# EAGLE library part 515-1062+597-7701-507F (library isystems-leds)
Dialight Optopipe 515-1066 Optical Light Pipe, 8 Array, 2.5mm Round Recomended MicroLED SMT LEDs: 597-3xx1-5xx, 597-77x1-5xx Features: Compatible with Dialight’s 515-1063 8 Array Light Pipe for bi-level SMT indicators High transmissivity polycarbonate material UL94V-0 compliance ESD protection (circuit isolation from front panel) Wide viewing angle Arrays reduce insertion costs Secures to PCB by press-fit Dialight Micro LED SMD bi-color LED Package: 1210 Color RED + GREEN Forward Voltage: 2.0/2.2V Wavelength: 653/575nm Intensity: 6.3 / 16 mcd
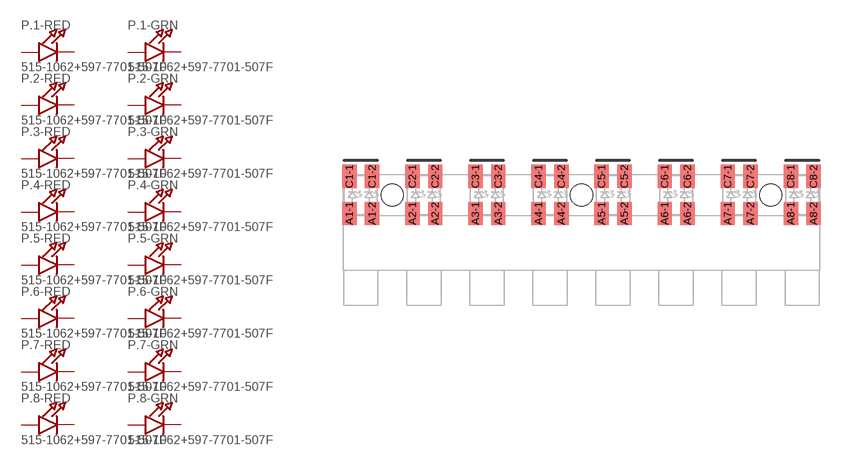
[diagram p0: symbol with the pads of DIALIGHT_515-1062-BICOLOR; footprint DIALIGHT_515-1062-BICOLOR]

Designator prefix P; gates .1-RED=LED .2-RED=LED .3-RED=LED .4-RED=LED .5-RED=LED .6-RED=LED .7-RED=LED .8-RED=LED .1-GRN=LED .2-GRN=LED .3-GRN=LED .4-GRN=LED .5-GRN=LED .6-GRN=LED .7-GRN=LED .8-GRN=LED

## 515-1062+597-7701-507F  [DIALIGHT_515-1062-BICOLOR]
A1-1  .1-GRN:A  pas
A1-2  .1-RED:A  pas
A2-1  .2-GRN:A  pas
A2-2  .2-RED:A  pas
A3-1  .3-GRN:A  pas
A3-2  .3-RED:A  pas
A4-1  .4-GRN:A  pas
A4-2  .4-RED:A  pas
A5-1  .5-GRN:A  pas
A5-2  .5-RED:A  pas
A6-1  .6-GRN:A  pas
A6-2  .6-RED:A  pas
A7-1  .7-GRN:A  pas
A7-2  .7-RED:A  pas
A8-1  .8-GRN:A  pas
A8-2  .8-RED:A  pas
C1-1  .1-GRN:C  pas
C1-2  .1-RED:C  pas
C2-1  .2-GRN:C  pas
C2-2  .2-RED:C  pas
C3-1  .3-GRN:C  pas
C3-2  .3-RED:C  pas
C4-1  .4-GRN:C  pas
C4-2  .4-RED:C  pas
C5-1  .5-GRN:C  pas
C5-2  .5-RED:C  pas
C6-1  .6-GRN:C  pas
C6-2  .6-RED:C  pas
C7-1  .7-GRN:C  pas
C7-2  .7-RED:C  pas
C8-1  .8-GRN:C  pas
C8-2  .8-RED:C  pas

## Footprint DIALIGHT_515-1062-BICOLOR (pad centres in mm)
Dialight Optopipe 515-1066 with bi-color LEDs Optical Light Pipe, 8 Array, 2.5mm Round Recomended MicroLED SMT LEDs: 597-3xx1-5xx, 597-77x1-5xx Features: Compatible with Dialight’s 515-1063 8 Array Light Pipe for bi-level SMT indicators High transmissivity polycarbonate material UL94V-0 compliance ESD protection (circuit isolation from front panel) Wide viewing angle Arrays reduce insertion costs Secures to PCB by press-fit
smd 1.04 x 1.7: A1-1 -16.82,-1.345; A1-2 -15.17,-1.345; A2-1 -12.25,-1.345; A2-2 -10.6,-1.345; A3-1 -7.68,-1.345; A3-2 -6.03,-1.345; A4-1 -3.11,-1.345; A4-2 -1.46,-1.345; A5-1 1.46,-1.345; A5-2 3.11,-1.345; A6-1 6.03,-1.345; A6-2 7.68,-1.345; A7-1 10.6,-1.345; A7-2 12.25,-1.345; A8-1 15.17,-1.345; A8-2 16.82,-1.345; C1-1 -16.82,1.345; C1-2 -15.17,1.345; C2-1 -12.25,1.345; C2-2 -10.6,1.345; C3-1 -7.68,1.345; C3-2 -6.03,1.345; C4-1 -3.11,1.345; C4-2 -1.46,1.345; C5-1 1.46,1.345; C5-2 3.11,1.345; C6-1 6.03,1.345; C6-2 7.68,1.345; C7-1 10.6,1.345; C7-2 12.25,1.345; C8-1 15.17,1.345; C8-2 16.82,1.345
hole 1.6 at 0,0
hole 1.6 at -13.72,0
hole 1.6 at 13.72,0